# Altium schematic symbol library CN HDR 2POS 90 JST SH.SchLib: 1 symbol
Pins are listed as number, name and electrical type; pins without a type are passive.

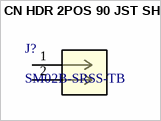
[diagram p0: symbol CN HDR 2POS 90 JST SH]

## CN HDR 2POS 90 JST SH
designator J?, comment SM02B-SRSS-TB
No Description Available; Mfr_Name: JST; Copyright: Copyright (C) 2023 Ultra Librarian. All rights reserved.; Manufacturer_Part_Number: SM02B-SRSS-TB; RefDes: RefDes; Type: DEV
footprint SM02B-SRSS-TB(LF)(SN)
pins: 1, 2